# Altium footprint library DPDT_Relay.PcbLib: 7 footprints
Each footprint in its own frame and in the unit in brackets; x right, y up, seen from the top. Pads: shape width x height; smd on the part's side, far side on the other; paste and mask are expansions set on the pad; w line width, h text height; cw(c..) or ccw(c..) is an arc to the next point about the centre after c.
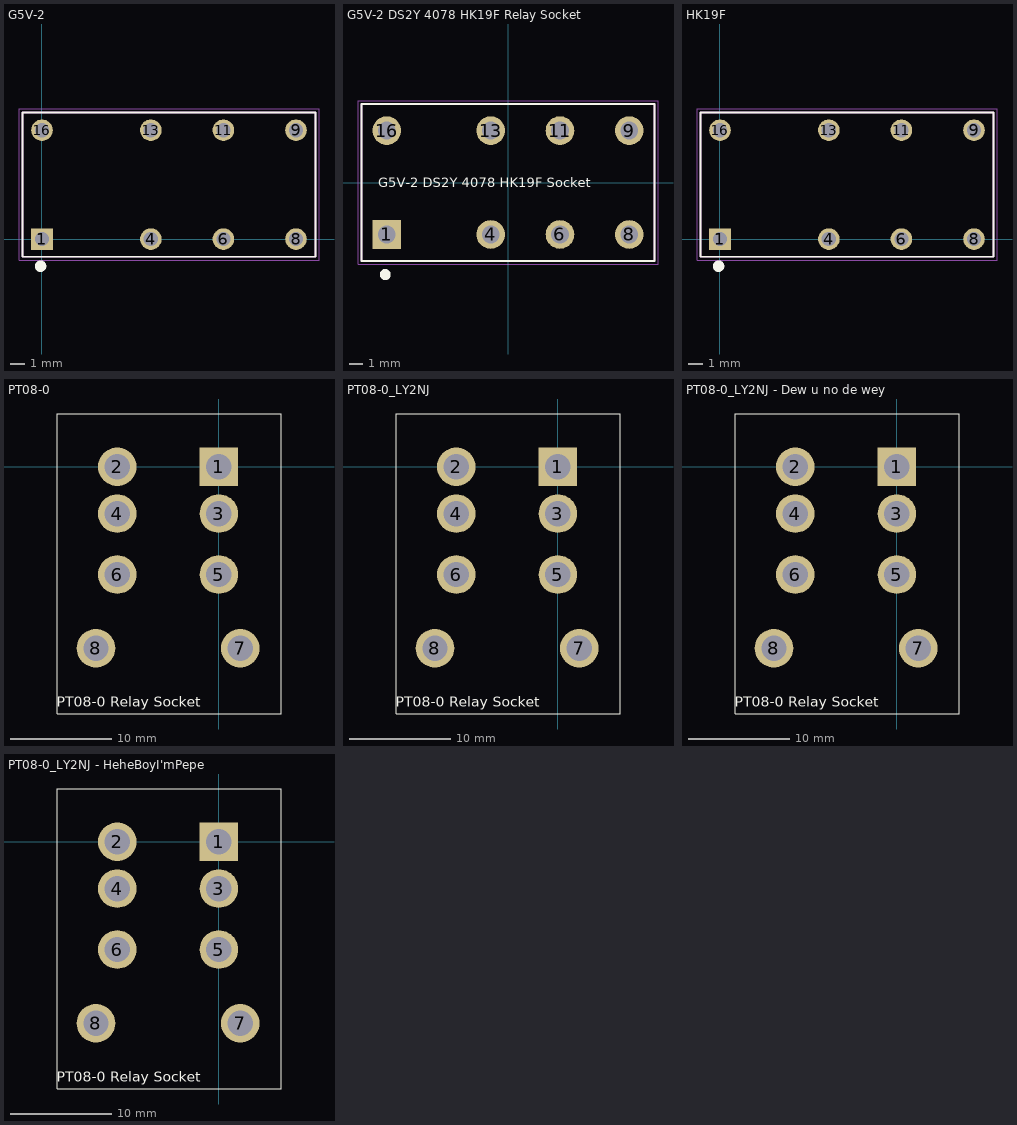
[diagram p0: the footprints below, top view; thin cyan lines are the x and y axes]

## G5V-2 [mm]
pads (8):
  rect 1.508x1.508 hole 1: 1(0,0)
  round 1.508 hole 1: 4(7.62,0) 6(12.7,0) 8(17.78,0) 9(17.78,7.62) 11(12.7,7.62) 13(7.62,7.62) 16(0,7.62)
Top Overlay:
  circle w0.4: c-0.1,-1.9 r0.2
  lines w0.127: -1.36,-1.24 19.14,-1.24 19.14,8.86 -1.36,8.86 -1.36,-1.24
Mechanical 13:
  lines w0.127: -1.36,-1.24 19.14,-1.24 19.14,8.86 -1.36,8.86 -1.36,-1.24
Mechanical 15:
  lines w0.05: -1.61,-1.49 19.39,-1.49 19.39,9.11 -1.61,9.11 -1.61,-1.49
3D body "G5V-2 Relay .x_t": height 11.98, standoff -3.03, extent -1.323,-1.21 19.177,8.89

## G5V-2 DS2Y 4078 HK19F Relay Socket [mm]
pads (8):
  rect 2.1x2.1 hole 1.3: 1(-8.89,-3.81)
  round 2.1 hole 1.3: 4(-1.27,-3.81) 6(3.81,-3.81) 8(8.89,-3.81) 9(8.89,3.81) 11(3.81,3.81) 13(-1.27,3.81) 16(-8.89,3.81)
Top Overlay:
  circle w0.4: c-9,-6.75 r0.2
  lines w0.127: -10.75,-5.75 10.75,-5.75 10.75,5.75 -10.75,5.75 -10.75,-5.75
  text "G5V-2 DS2Y 4078 HK19F Socket" at -9.505,-0.35 h0.7
Mechanical 13:
  lines w0.127: -10.75,-5.75 -10.75,5.75 10.75,5.75 10.75,-5.75 -10.75,-5.75
Mechanical 15:
  lines w0.05: -11,-6 -11,6 11,6 11,-6 -11,-6

## HK19F [mm]
pads (8):
  rect 1.508x1.508 hole 1: 1(0,0)
  round 1.508 hole 1: 4(7.62,0) 6(12.7,0) 8(17.78,0) 9(17.78,7.62) 11(12.7,7.62) 13(7.62,7.62) 16(0,7.62)
Top Overlay:
  circle w0.4: c-0.1,-1.9 r0.2
  lines w0.127: -1.36,-1.24 -1.36,8.86 19.14,8.86 19.14,-1.24 -1.36,-1.24
Mechanical 13:
  lines w0.127: -1.36,-1.24 -1.36,8.86 19.14,8.86 19.14,-1.24 -1.36,-1.24
Mechanical 15:
  lines w0.05: -1.61,-1.49 -1.61,9.11 19.39,9.11 19.39,-1.49 -1.61,-1.49
3D body "User Library-Relay PCB Type HK19F.x_t": height 12.97, standoff -2.52, extent -1.194,-1.262 19.006,8.738

## PT08-0 [mm]
height 18
pads (8):
  rect 3.8x3.8 hole 2.5: 1(0,0)
  round 3.8 hole 2.5: 2(-10,0) 3(0,-4.6) 4(-10,-4.6) 5(0,-10.6) 6(-10,-10.6) 7(2.1,-17.85) 8(-12.1,-17.85)
Top Overlay:
  lines w0.1: -15.9,-24.325 6.125,-24.325 6.125,5.2 -15.9,5.2 -15.9,-24.325
  text "PT08-0 Relay Socket" at -15.95,-23.635 h1
3D body "PT08_0.STEP": height 13.9, standoff -4.1, extent -15.895,-24.309 6.105,5.191

## PT08-0_LY2NJ [mm]
height 54
pads (8):
  rect 3.8x3.8 hole 2.5: 1(0,0)
  round 3.8 hole 2.5: 2(-10,0) 3(0,-4.6) 4(-10,-4.6) 5(0,-10.6) 6(-10,-10.6) 7(2.1,-17.85) 8(-12.1,-17.85)
Top Overlay:
  lines w0.1: -15.9,-24.325 6.125,-24.325 6.125,5.2 -15.9,5.2 -15.9,-24.325
  text "PT08-0 Relay Socket" at -15.95,-23.635 h1
3D body "LY2N.STEP": height 49.97, standoff 7.58, extent -15.67,-23.071 5.83,4.929
3D body "PT08_0.STEP": height 13.9, standoff -4.1, extent -15.895,-24.309 6.105,5.191

## PT08-0_LY2NJ - Dew u no de wey [mm]
height 54
pads (8):
  rect 3.8x3.8 hole 2.5: 1(0,0)
  round 3.8 hole 2.5: 2(-10,0) 3(0,-4.6) 4(-10,-4.6) 5(0,-10.6) 6(-10,-10.6) 7(2.1,-17.85) 8(-12.1,-17.85)
Top Overlay:
  lines w0.1: -15.9,-24.325 6.125,-24.325 6.125,5.2 -15.9,5.2 -15.9,-24.325
  text "PT08-0 Relay Socket" at -15.95,-23.635 h1
3D body "wea.x_t": height 35.44, standoff 15.17, extent -7.244,-22.71 -2.596,4.567
3D body "LY2N.STEP": height 49.97, standoff 7.58, extent -15.67,-23.071 5.83,4.929
3D body "PT08_0.STEP": height 13.9, standoff -4.1, extent -15.895,-24.309 6.105,5.191

## PT08-0_LY2NJ - HeheBoyI'mPepe [mm]
height 54
pads (8):
  rect 3.8x3.8 hole 2.5: 1(0,0)
  round 3.8 hole 2.5: 2(-10,0) 3(0,-4.6) 4(-10,-4.6) 5(0,-10.6) 6(-10,-10.6) 7(2.1,-17.85) 8(-12.1,-17.85)
Top Overlay:
  lines w0.1: -15.9,-24.325 -15.9,5.2 6.125,5.2 6.125,-24.325 -15.9,-24.325
  text "PT08-0 Relay Socket" at -15.95,-23.635 h1
3D body "LY2N.STEP": height 49.97, standoff 7.58, extent -15.67,-23.071 5.83,4.929
3D body "PT08_0.STEP": height 13.9, standoff -4.1, extent -15.895,-24.309 6.105,5.191
3D body "Feels-good-man.x_t": height 41.63, standoff 21.76, extent -5.195,-19.498 -4.595,0.38